# Altium schematic symbol library IC.SchLib: 52 symbols
Pins are listed as number, name and electrical type; pins without a type are passive.

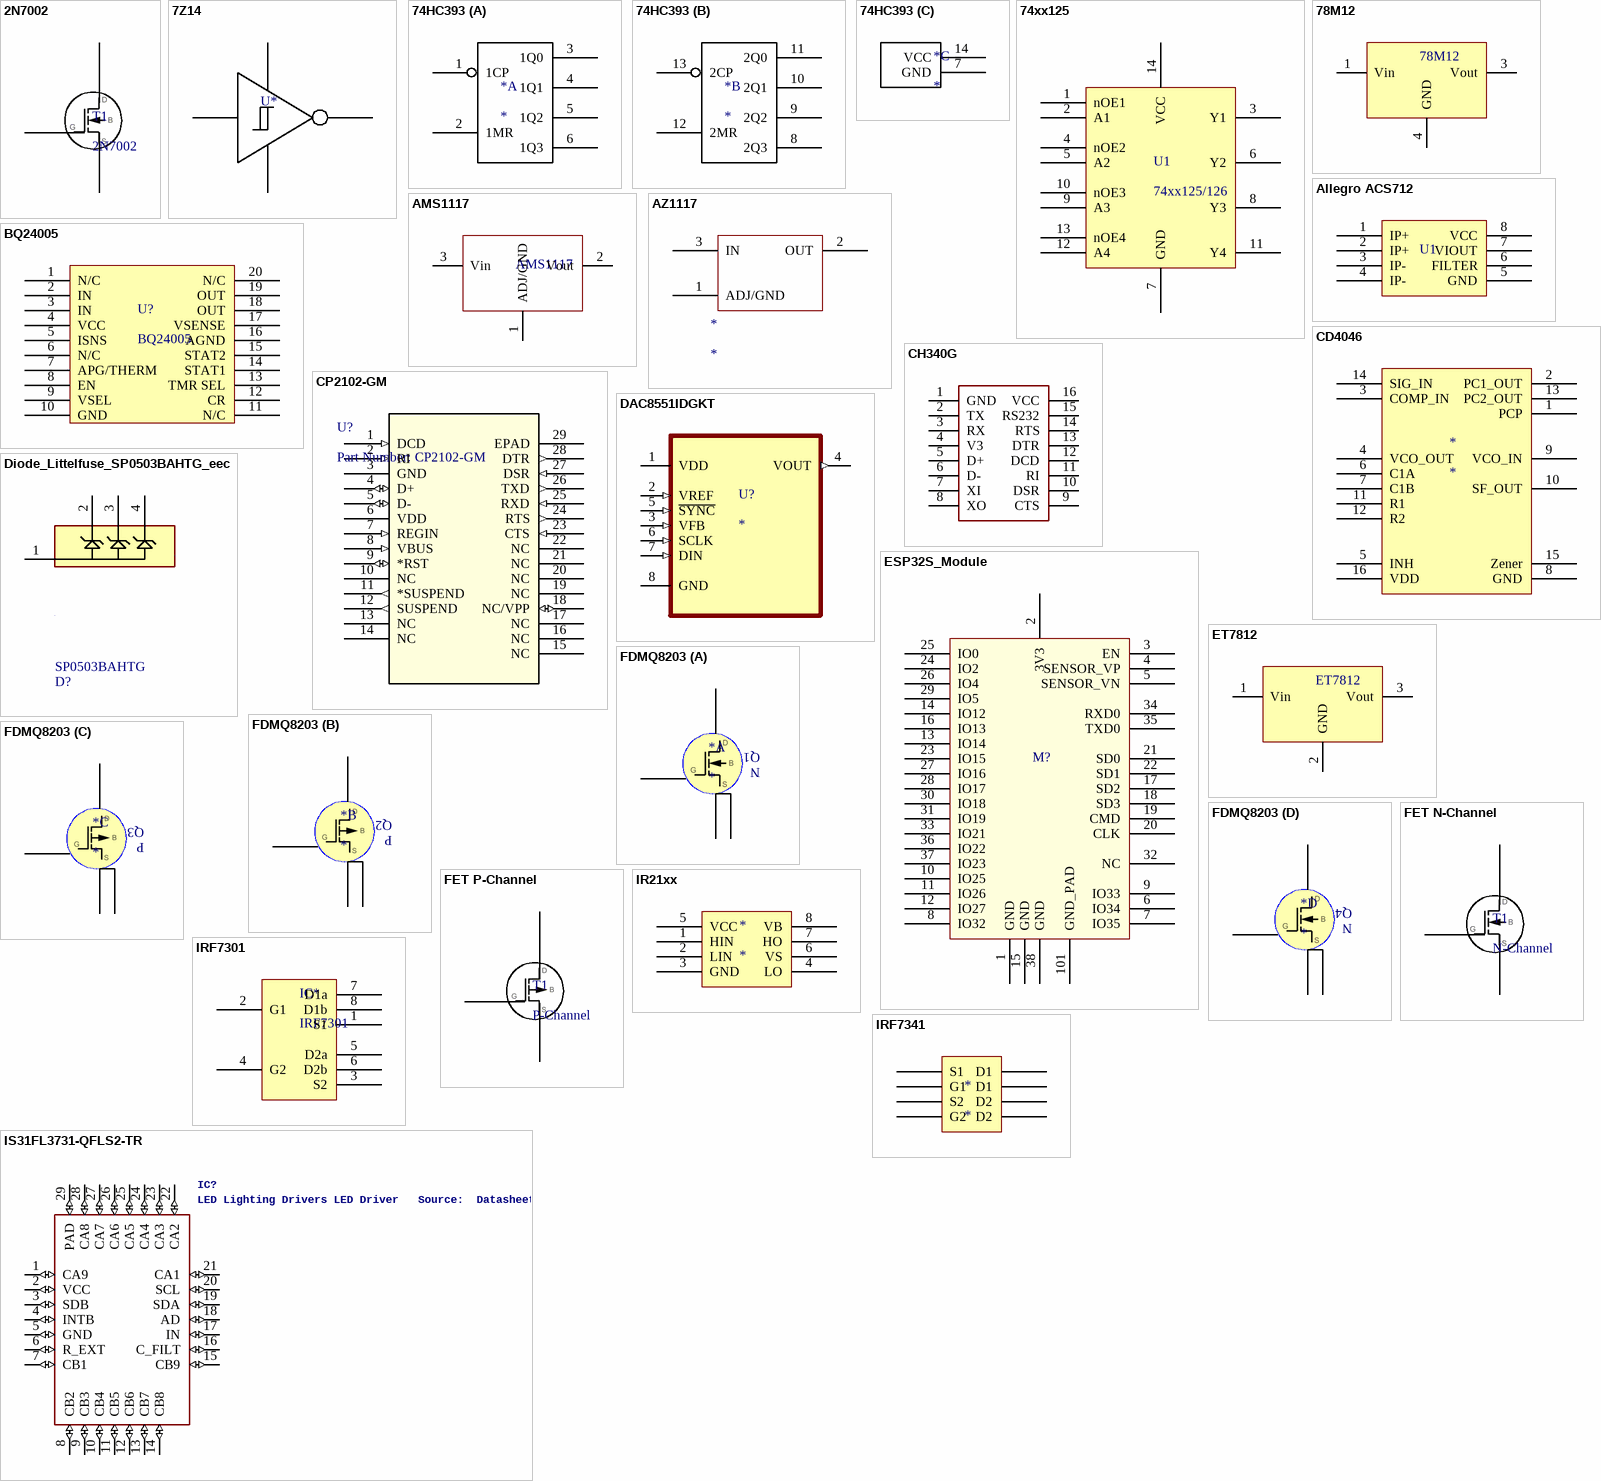
[diagram p0: symbols 2N7002 to IS31FL3731-QFLS2-TR]

## 2N7002
designator T1
N-FET
footprint SOT-23-3
pins: 1, 2, 3

## 7Z14
designator U*  (value not drawn)
Inverter with Schmitt-Trigger
footprint SOT-23-5 (SOT-23/SC-74A; 5 Leads; Body 3 x 3.1 mm, inc. leads (LxW max))
pins: 2 A, 3 GND, 4 Y, 5 VCC

## 74HC393
designator *
Dual 4-Bit Counter
footprint SOIC-14 (SOIC, 8-Leads, Body 4.9x3.9mm, Pitch 1.27mm, IPC High Density)
part A pins: 1 1CP, 2 1MR, 3 1Q0, 4 1Q1, 5 1Q2, 6 1Q3
part B pins: 8 2Q3, 9 2Q2, 10 2Q1, 11 2Q0, 12 2MR, 13 2CP
part C pins: 7 GND, 14 VCC

## 74xx125
designator U1, comment 74xx125/126
Quad 3-State Buffers
footprint DIP-14
pins: 1 nOE1, 2 A1, 3 Y1, 4 nOE2, 5 A2, 6 Y2, 7 GND, 8 Y3, 9 A3, 10 nOE3, 11 Y4, 12 A4, 13 nOE4, 14 VCC

## 78M12
designator 78M12  (value not drawn)
LDO 12V
footprint TO-252-AA
pins: 1 Vin, 3 Vout, 4 GND

## Allegro ACS712
designator U1  (value not drawn)
Analog current sensor
footprint SOIC-8
pins: 1 IP+, 2 IP+, 3 IP-, 4 IP-, 5 GND, 6 FILTER, 7 VIOUT, 8 VCC

## AMS1117
designator AMS1117
LDO 3.3V/5V/12V
footprint SOT-223-3
pins: 1 ADJ/GND, 2 Vout, 3 Vin

## AZ1117
designator *
footprint SOT-223-3
pins: 1 ADJ/GND, 2 OUT, 3 IN

## BQ24005
designator U?
TWO-CELL Li-ION CHARGE MANAGEMENT IC; Company: Texas Instruments
footprint PW020 (Shrink Small Outline; 20 Leads; Body Width 4.4 mm; Pitch 0.65 mm)
pins: 1 N/C, 2 IN, 3 IN, 4 VCC, 5 ISNS, 6 N/C, 7 APG/THERM, 8 EN, 9 VSEL, 10 GND, 11 N/C, 12 CR, 13 TMR SEL, 14 STAT1, 15 STAT2, 16 AGND, 17 VSENSE, 18 OUT, 19 OUT, 20 N/C

## CD4046
designator *
PLL / VCO
footprint SOIC-16 (SOIC, 8-Leads, Body 4.9x3.9mm, Pitch 1.27mm, IPC High Density)
pins: 1 PCP, 2 PC1_OUT, 3 COMP_IN, 4 VCO_OUT, 5 INH, 6 C1A, 7 C1B, 8 GND, 9 VCO_IN, 10 SF_OUT, 11 R1, 12 R2, 13 PC2_OUT, 14 SIG_IN, 15 Zener, 16 VDD

## CH340G
designator ?
footprint SOIC16
pins: 1 GND, 2 TX, 3 RX, 4 V3, 5 D+, 6 D-, 7 XI, 8 XO, 9 CTS, 10 DSR, 11 RI, 12 DCD, 13 DTR, 14 RTS, 15 RS232, 16 VCC

## CP2102-GM
designator U?, comment Part Number: CP2102-GM
No Description Available; Vendor: Silicon Labs; Built_By: EMA_UL_Team; Manufacturer_Part_Number: CP2102-GM; Copyright: Copyright (C) 2018 Accelerated Designs. All rights reserved; RefDes: RefDes; Type: DEV; Value: Value
footprint QFN28_5X5
pins: 1 DCD (in), 2 RI (in), 3 GND (power), 4 D+ (io), 5 D- (io), 6 VDD (power), 7 REGIN (in), 8 VBUS (in), 9 *RST (io), 10 NC, 11 *SUSPEND (out), 12 SUSPEND (out), 13 NC, 14 NC, 15 NC, 16 NC, 17 NC, 18 NC/VPP (io), 19 NC, 20 NC, 21 NC, 22 NC, 23 CTS (in), 24 RTS (out), 25 RXD (in), 26 TXD (out), 27 DSR (in), 28 DTR (out), 29 EPAD

## DAC8551IDGKT
designator U?
16 Bit Digital to Analog Converter 1 8-VSSOP; MF: Texas Instruments; MP: DAC8551IDGKT; Price: None; Value: *; Package: MSOP-8 Texas Instruments; SnapEDA_Link: https://www.snapeda.com/parts/DAC8551IDGKT/Texas%20Instruments/view-part/317836/?ref=snap; Availability: Unavailable
footprint SOP65P490X110-8N
pins: 1 VDD (power), 2 VREF (in), 3 VFB (in), 4 VOUT (out), 5 ~{SYNC} (in), 6 SCLK (in), 7 DIN (in), 8 GND

## Diode_Littelfuse_SP0503BAHTG_eec
designator D?  Part Number: SP0503BAHTG
DIODE TVS DIODE 5.5VWM 8.5VC SOT143; Manufacturer: Littelfuse; helpURL: https://upverter.com/upn/revision/6b5b591e3bf31c16/; ComponentLink2Description: Datasheet; Temperature: -40°C to +85°C; Package: SOT143-4; Supplier 2: Mouser; Price: 0.571399033067; Supplier 1: Digi-Key; ComponentLink1URL: https://upverter.com/upn/revision/6b5b591e3bf31c16/; Supplier Part Number 2: 576-SP0503BAHTG; Supplier Part Number 1: F2715CT-ND; ComponentLink1Description: Upverter; ComponentLink2URL: http://www.littelfuse.com/~/media/electronics/datasheets/tvs_diode_arrays/littelfuse_tvs_diode_array_sp05_datasheet.pdf.pdf; RoHS: TRUE; Mouser Part Number: 576-SP0503BAHTG; Temperature Range High: +85°C; Digikey Description: DIODE TVS DIODE 5.5VWM 8.5VC SOT143; Digikey Part Number: F2715CT-ND; Lead Free: yes; Temperature Range Low: -40°C
footprint Littelfuse_SP0503BAHTG_0
pins: 1 COMMON ANODE, 2 1 CATHODE, 3 2 CATHODE, 4 3 CATHODE

## ESP32S_Module
designator M?  (value not drawn)
Esp-32S; Datasheet: https://espressif.com/sites/default/files/documentation/esp_wroom_32_datasheet_en.pdf
footprint ESP32S (ESP32S-Module)
footprint ESP32S_W (Esp32S Module wide for hand soldering)
pins: 1 GND (power), 2 3V3 (power), 3 EN (power), 4 SENSOR_VP, 5 SENSOR_VN, 6 IO34, 7 IO35, 8 IO32, 9 IO33, 10 IO25, 11 IO26, 12 IO27, 13 IO14, 14 IO12, 15 GND (power), 16 IO13, 17 SD2, 18 SD3, 19 CMD, 20 CLK, 21 SD0, 22 SD1, 23 IO15, 24 IO2, 25 IO0, 26 IO4, 27 IO16, 28 IO17, 29 IO5, 30 IO18, 31 IO19, 32 NC, 33 IO21, 34 RXD0, 35 TXD0, 36 IO22, 37 IO23, 38 GND (power), 101 GND_PAD (power)

## ET7812
designator ET7812  (value not drawn)
LDO 12V
footprint TO-220-AB
pins: 1 Vin, 2 GND, 3 Vout

## FDMQ8203
designator *
Quad FET 2xN,2xP
part A pins: 1 G1, 2 S1, 3 S1, 13 D1
part B pins: 4 G2, 5 S2, 6 S2, 14 D2
part C pins: 7 S3, 8 S3, 9 G3, 15 D3
part D pins: 10 S4, 11 S4, 12 G4, 16 D4
part A text: Q1; N
part B text: Q2; P
part C text: Q3; P
part D text: Q4; N

## FET N-Channel
designator T1, comment N-Channel
Enhancement Type
pins: D, G, S

## FET P-Channel
designator T1, comment P-Channel
Enhancement Type
pins: D, G, S

## IR21xx
designator *
High and Low Side Driver
footprint SOIC-8 (SOIC, 8-Leads, Body 4.9x3.9mm, Pitch 1.27mm, IPC High Density)
pins: 1 HIN, 2 LIN, 3 GND, 4 LO, 5 VCC, 6 VS, 7 HO, 8 VB

## IRF7301
designator IC*
Dual N-FET
footprint SOIC8 (SOIC, 8-Leads, Body 4.9x3.9mm, Pitch 1.27mm, IPC High Density)
pins: 1 S1, 2 G1, 3 S2, 4 G2, 5 D2a, 6 D2b, 7 D1a, 8 D1b

## IRF7341
designator *
Dual N-FET
pins: 1 S1, 2 G1, 3 S2, 4 G2, 5 D2, 6 D2, 7 D1, 8 D1

## IS31FL3731-QFLS2-TR
designator IC?, comment LED Lighting Drivers LED Driver   Source:  Datasheet
Manufacturer_Name: Integrated Silicon Solution Inc.; Manufacturer_Part_Number: IS31FL3731-QFLS2-TR; Arrow_Part_Number: IS31FL3731-QFLS2-TR; Arrow_Price-Stock: https://www.arrow.com/en/products/is31fl3731-qfls2-tr/integrated-silicon-solution-inc; Height: 0.8mm
footprint QFN40P400X400X80-29N
pins: 1 CA9 (io), 2 VCC (io), 3 SDB (io), 4 INTB (io), 5 GND (io), 6 R_EXT (io), 7 CB1 (io), 8 CB2 (io), 9 CB3 (io), 10 CB4 (io), 11 CB5 (io), 12 CB6 (io), 13 CB7 (io), 14 CB8 (io), 15 CB9 (io), 16 C_FILT (io), 17 IN (io), 18 AD (io), 19 SDA (io), 20 SCL (io), 21 CA1 (io), 22 CA2 (io), 23 CA3 (io), 24 CA4 (io), 25 CA5 (io), 26 CA6 (io), 27 CA7 (io), 28 CA8 (io), 29 PAD (io)

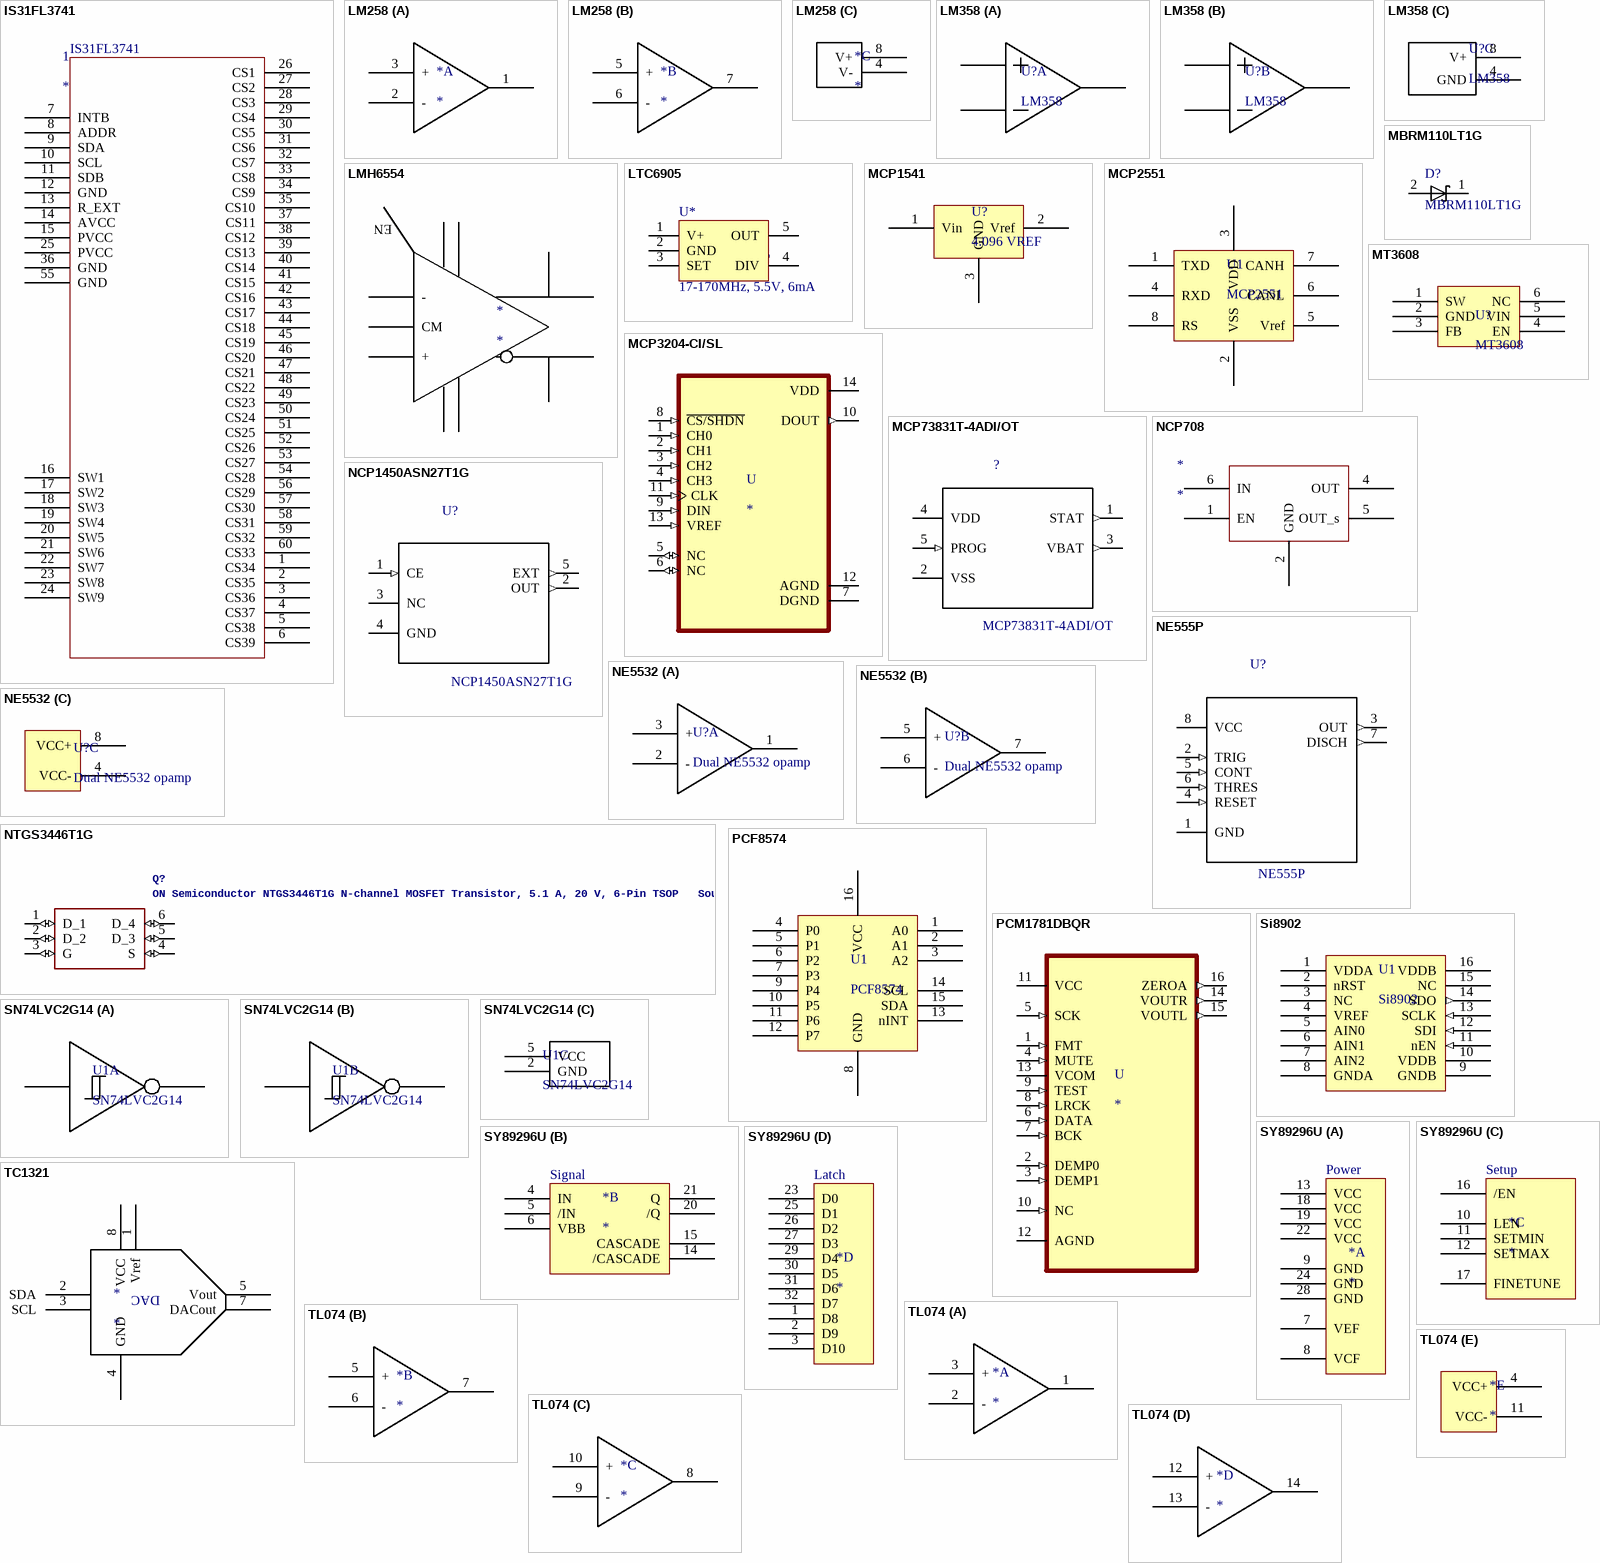
[diagram p1: symbols IS31FL3741 to TL074]

## IS31FL3741
designator 1
footprint QFN40P700X700X80-61N
pins: 1 CS34, 2 CS35, 3 CS36, 4 CS37, 5 CS38, 6 CS39, 7 INTB, 8 ADDR, 9 SDA, 10 SCL, 11 SDB, 12 GND, 13 R_EXT, 14 AVCC, 15 PVCC, 16 SW1, 17 SW2, 18 SW3, 19 SW4, 20 SW5, 21 SW6, 22 SW7, 23 SW8, 24 SW9, 25 PVCC, 26 CS1, 27 CS2, 28 CS3, 29 CS4, 30 CS5, 31 CS6, 32 CS7, 33 CS8, 34 CS9, 35 CS10, 36 GND, 37 CS11, 38 CS12, 39 CS13, 40 CS14, 41 CS15, 42 CS16, 43 CS17, 44 CS18, 45 CS19, 46 CS20, 47 CS21, 48 CS22, 49 CS23, 50 CS24, 51 CS25, 52 CS26, 53 CS27, 54 CS28, 55 GND, 56 CS29, 57 CS30, 58 CS31, 59 CS32, 60 CS33

## LM258
designator *
Dual OpAmp
footprint SOIC-8 (SOIC, 8-Leads, Body 4.9x3.9mm, Pitch 1.27mm, IPC High Density)
part A pins: 1 OUT, 2 -, 3 +
part B pins: 5 +, 6 -, 7 OUT
part C pins: 4 V-, 8 V+

## LM358
designator U?
footprint SOIC-8
part A pins: 1 YA, 2 -A, 3 +A
part B pins: 5 +B, 6 -B, 7 YB
part C pins: 4 GND, 8 V+

## LMH6554
designator *
HF OpAmp
footprint UQFN-14
pins: 1 V+, 2 CM, 3 V-, 4 FB+, 5 -, 6 +, 7 FB-, 8 V-, 9 VEN, 10 V+, 12 OUT-, 13 OUT+
text: EN

## LTC6905
designator U*, comment 17-170MHz, 5.5V, 6mA  Type: LTC6905
VCO with 17MHz to 170MHz; Manufacturing Name: Linear Technology; Manufacturing Part Nr.: LTC6905IS5#TRMPBF; Preis: 4,3; Tolerance: ±0.5%; Datasheet: http://www.digikey.de/product-detail/de/LTC6905IS5%23TRMPBF/LTC6905IS5%23TRMPBFCT-ND/3830420; Supplier Name: Digi-Key; Supplier Part Nr.: LTC6905IS5#TRMPBFCT-ND; Supplier Part Nr. Reel: LTC6905IS5#TRMPBFDKR-ND; Value: 17-170MHz, 5.5V, 6mA; WMS: -
footprint SOT-23-5 (SOT-23/SC-74A; 5 Leads; Body 3 x 3.1 mm, inc. leads (LxW max))
pins: 1 V+, 2 GND, 3 SET, 4 DIV, 5 OUT

## MBRM110LT1G
designator D?
MBRM110E Series 1 A 10 V Schottky Barrier Rectifier - POWERMITE-2; MF: ON Semiconductor; Price: 0.25 USD; Package: DO-216AA ON Semiconductor; Availability: Good; MP: MBRM110LT1G; SnapEDA_Link: https://www.snapeda.com/parts/MBRM110LT1G/ON%2520Semiconductor/view-part/?ref=snap; Value: *
footprint DIO_MBRM110LT1G
pins: 1 C, 2 A

## MCP1541
designator U?, comment 4.096 VREF
4.096 Voltage reference
footprint SOT-23-3
pins: 1 Vin, 2 Vref, 3 GND

## MCP2551
designator U1
CAN-Bus Transceiver
footprint DIP-8
pins: 1 TXD, 2 VSS, 3 VDD, 4 RXD, 5 Vref, 6 CANL, 7 CANH, 8 RS

## MCP3204-CI/SL
designator U
12 Bit Analog to Digital Converter 2, 4 Input 1 SAR 14-SOIC; MF: Microchip; MP: MCP3204-CI/SL; Price: None; SnapEDA_Link: https://www.snapeda.com/parts/MCP3204-CI/SL/Microchip/view-part/62/?ref=snap; Value: *; Package: SOIC-14 Microchip; Availability: Unavailable
footprint SOIC-14
pins: 1 CH0 (in), 2 CH1 (in), 3 CH2 (in), 4 CH3 (in), 5 NC (io), 6 NC (io), 7 DGND (power), 8 ~{CS/SHDN} (in), 9 DIN (in), 10 DOUT (out), 11 CLK (in), 12 AGND (power), 13 VREF (in), 14 VDD (power)

## MCP73831T-4ADI/OT
designator ?
IC CONTRLR LI-ION 4.40V SOT23-5; MF: Microchip; Price: 0.47 USD; Availability: Good; MP: MCP73831T-4ADI/OT; Package: SOT-23-5 Microchip; Value: *
footprint SOT95P280X145-5N
pins: 1 STAT (out), 2 VSS (power), 3 VBAT (out), 4 VDD (power), 5 PROG (in)

## MT3608
designator U?
Boost converter
footprint SOT23-6 (SOT-457/SC-74; 6 Leads; Body 3 x 3 mm, inc. leads (LxW max))
pins: 1 SW, 2 GND, 3 FB, 4 EN, 5 VIN, 6 NC

## NCP708
designator *
footprint UDFN6 CASE 517DD
pins: 1 EN, 2 GND, 4 OUT, 5 OUT_s, 6 IN

## NCP1450ASN27T1G
designator U?
DC DC Cntrlr Single-OUT Step Up 0.6V to 5.5V Input 5-Pin TSOP T/R; MF: ON Semiconductor; Price: 0.33 USD; Package: SOT-23 ON Semiconductor; Availability: Warning; MP: NCP1450ASN27T1G; SnapEDA_Link: https://www.snapeda.com/parts/NCP1450ASN27T1G/ON%2520Semiconductor/view-part/?ref=snap; Value: *
footprint SOT95P280X110-5N
pins: 1 CE (in), 2 OUT (out), 3 NC, 4 GND, 5 EXT (out)

## NE555P
designator U?
MF: Texas Instruments; Price: None; Package: PDIP-8 STMicroelectronics; SnapEDA_Link: https://www.snapeda.com/parts/NE555P/Texas%20Instruments/view-part/?ref=snap; Availability: Unavailable; MP: NE555P; Value: *
footprint DIP254P762X508-8
pins: 1 GND, 2 TRIG (in), 3 OUT (out), 4 RESET (in), 5 CONT (in), 6 THRES (in), 7 DISCH (out), 8 VCC (power)

## NE5532
designator U?, comment Dual NE5532 opamp
part A pins: 1 OUT, 2 -, 3 +
part B pins: 5 +, 6 -, 7 OUT
part C pins: 4 VCC-, 8 VCC+

## NTGS3446T1G
designator Q?, comment ON Semiconductor NTGS3446T1G N-channel MOSFET Transistor, 5.1 A, 20 V, 6-Pin TSOP   Source:  Datasheet
Allied_Number: 70100699; Manufacturer_Name: ON Semiconductor; Manufacturer_Part_Number: NTGS3446T1G; RS_Part_Number: 8024221P; RS_Price-Stock: http://uk.rs-online.com/web/p/products/8024221P; Allied_Price-Stock: https://www.alliedelec.com/on-semiconductor-ntgs3446t1g/70100699/; Arrow_Part_Number: NTGS3446T1G; Arrow_Price-Stock: https://www.arrow.com/en/products/ntgs3446t1g/on-semiconductor; Height: 1.1mm
footprint SOT95P275X110-6N
pins: 1 D_1 (io), 2 D_2 (io), 3 G (io), 4 S (io), 5 D_3 (io), 6 D_4 (io)

## PCF8574
designator U1
8-Bit I/O-Expander
footprint SOIC-16W
pins: 1 A0, 2 A1, 3 A2, 4 P0, 5 P1, 6 P2, 7 P3, 8 GND, 9 P4, 10 P5, 11 P6, 12 P7, 13 nINT, 14 SCL, 15 SDA, 16 VCC

## PCM1781DBQR
designator U
Converters - Digital to Analog _DAC_ 24-Bit, 192kHz, Ster Delta-Sig Audio DAC; MP: PCM1781DBQR; MF: Texas Instruments; Price: None; Value: *; Package: SSOP-16 Texas Instruments; SnapEDA_Link: https://www.snapeda.com/parts/PCM1781DBQR/Texas%20Instruments/view-part/547789/?ref=snap; Availability: Unavailable
footprint SOP16-63P600X175-16N
pins: 1 FMT (in), 2 DEMP0 (in), 3 DEMP1 (in), 4 MUTE (in), 5 SCK (in), 6 DATA (in), 7 BCK (in), 8 LRCK (in), 9 TEST (in), 10 NC (in), 11 VCC (power), 12 AGND, 13 VCOM, 14 VOUTR (out), 15 VOUTL (out), 16 ZEROA (out)

## Si8902
designator U1
Isolated 10-Bit ADC with SPI
footprint SOIC-16W
pins: 1 VDDA, 2 nRST, 3 NC, 4 VREF, 5 AIN0, 6 AIN1, 7 AIN2, 8 GNDA, 9 GNDB, 10 VDDB, 11 nEN (in), 12 SDI (in), 13 SCLK (in), 14 SDO (out), 15 NC, 16 VDDB

## SN74LVC2G14
designator U1
Dual Inverter with Schmitt-Trigger
footprint SOT-23-6
part A pins: 1 1A, 6 1Y
part B pins: 3 2A, 4 2Y
part C pins: 2 GND, 5 VCC

## SY89296U
designator *
10-Bit Programmable Delay; Website: http://www.microchip.com/wwwproducts/en/SY89296; Datasheet: http://ww1.microchip.com/downloads/en/DeviceDoc/sy89296u.pdf
footprint TQFP-32 (TQFP, 32 Leads, 7,00x7,00mm Body, 0,80mm Pitch, IPC Medium Density)
part A pins: 7 VEF, 8 VCF, 9 GND, 13 VCC, 18 VCC, 19 VCC, 22 VCC, 24 GND, 28 GND
part B pins: 4 IN, 5 /IN, 6 VBB, 14 /CASCADE, 15 CASCADE, 20 /Q, 21 Q
part C pins: 10 LEN, 11 SETMIN, 12 SETMAX, 16 /EN, 17 FINETUNE
part D pins: 1 D8, 2 D9, 3 D10, 23 D0, 25 D1, 26 D2, 27 D3, 29 D4, 30 D5, 31 D6, 32 D7
part A text: Power
part B text: Signal
part C text: Setup
part D text: Latch

## TC1321
designator *
DAC 10-Bit Two-Wire
footprint SOIC-8 (SOIC, 8-Leads, Body 4.9x3.9mm, Pitch 1.27mm, IPC High Density)
pins: 1 Vref, 2 SDA, 3 SCL, 4 GND, 5 Vout, 7 DACout, 8 VCC
text: DAC

## TL074
designator *
footprint DIP-14
footprint SOIC-14
part A pins: 1 OUT, 2 -, 3 +
part B pins: 5 +, 6 -, 7 OUT
part C pins: 8 OUT, 9 -, 10 +
part D pins: 12 +, 13 -, 14 OUT
part E pins: 4 VCC+, 11 VCC-

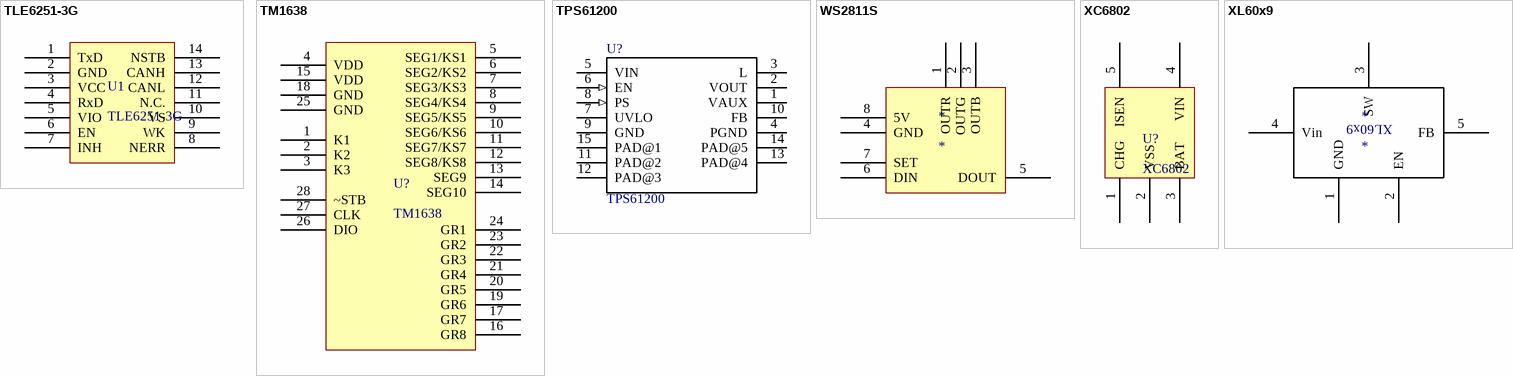
[diagram p2: symbols TLE6251-3G to XL60x9]

## TLE6251-3G
designator U1
CAN-Bus Transceiver
footprint SOIC-14
pins: 1 TxD, 2 GND, 3 VCC, 4 RxD, 5 VIO, 6 EN, 7 INH, 8 NERR, 9 WK, 10 VS, 11 N.C., 12 CANL, 13 CANH, 14 NSTB

## TM1638
designator U?
7Seg and keyboard driver
pins: 1 K1, 2 K2, 3 K3, 4 VDD, 5 SEG1/KS1, 6 SEG2/KS2, 7 SEG3/KS3, 8 SEG4/KS4, 9 SEG5/KS5, 10 SEG6/KS6, 11 SEG7/KS7, 12 SEG8/KS8, 13 SEG9, 14 SEG10, 15 VDD, 16 GR8, 17 GR7, 18 GND, 19 GR6, 20 GR5, 21 GR4, 22 GR3, 23 GR2, 24 GR1, 25 GND, 26 DIO, 27 CLK, 28 ~STB

## TPS61200
designator U?
0.3V Input Voltage Boost Converter with 1.3A Switches and Down Mode in 3x3 QFN; MF: Texas Instruments; Package: QFN-10 Texas Instruments; Price: None; Availability: Unavailable; MP: TPS61200; SnapEDA_Link: https://www.snapeda.com/parts/TPS61200/Texas%2520Instruments/view-part/?ref=snap; Value: *
footprint QFN-10_PAD
pins: 1 VAUX, 2 VOUT, 3 L, 4 PGND (power), 5 VIN (power), 6 EN (in), 7 UVLO, 8 PS (in), 9 GND (power), 10 FB, 11 PAD@2 (power), 12 PAD@3 (power), 13 PAD@4 (power), 14 PAD@5 (power), 15 PAD@1 (power)

## WS2811S
designator *
RGB LED Controller
pins: 1 OUTR, 2 OUTG, 3 OUTB, 4 GND, 5 DOUT, 6 DIN, 7 SET, 8 5V

## XC6802
designator U?
Single cell li-ion charger
footprint SOT-25
pins: 1 CHG, 2 VSS, 3 BAT, 4 VIN, 5 ISEN

## XL60x9
designator *
Buck-/Boost-Converter
pins: 1 GND, 2 EN, 3 SW, 4 Vin, 5 FB